# Altium footprint library pcblib.PcbLib: 8 footprints
Each footprint in its own frame and in the unit in brackets; x right, y up, seen from the top. Pads: shape width x height; smd on the part's side, far side on the other; paste and mask are expansions set on the pad; w line width, h text height; cw(c..) or ccw(c..) is an arc to the next point about the centre after c.
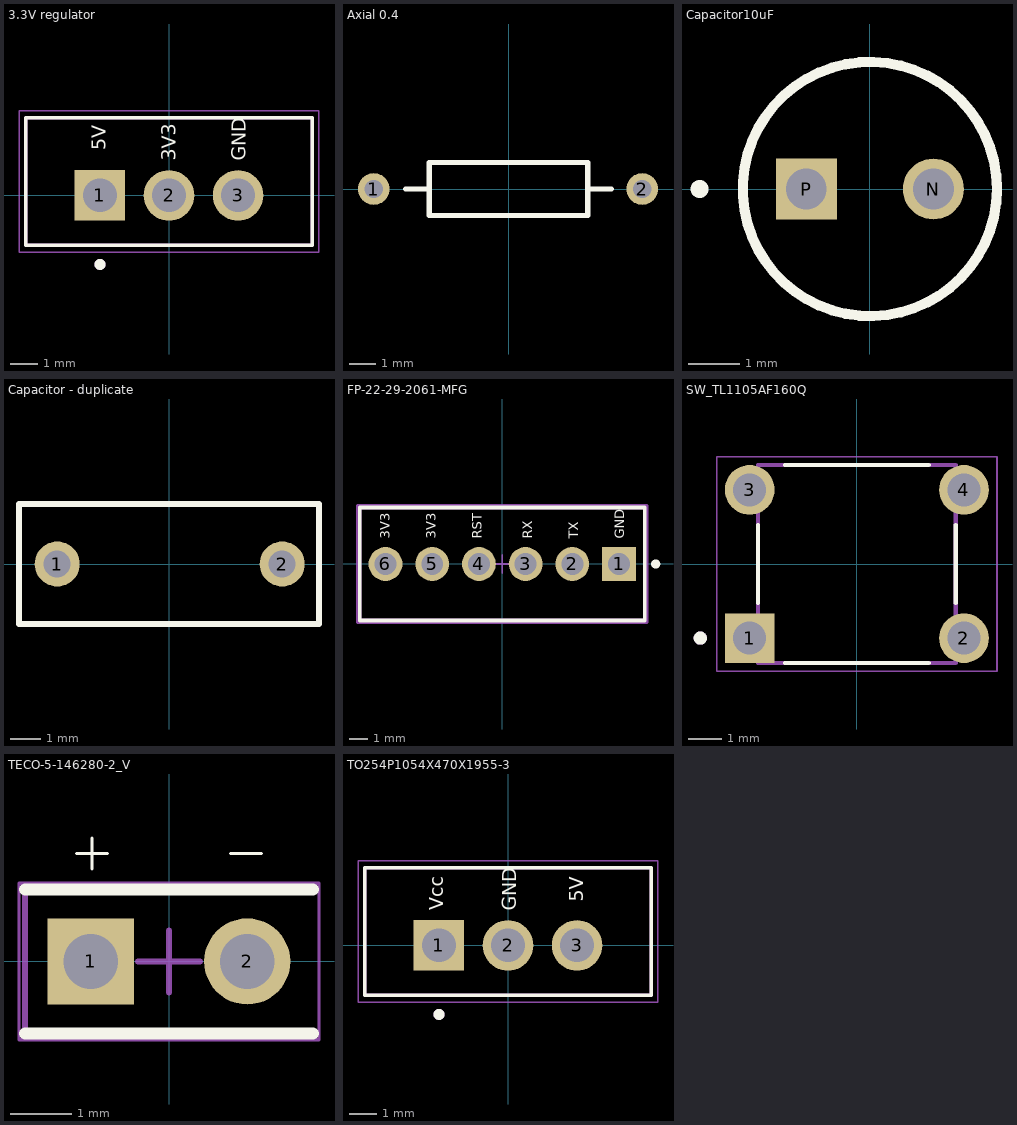
[diagram p0: the footprints below, top view; thin cyan lines are the x and y axes]

## 3.3V regulator [mm]
pads (3):
  rect 1.86x1.86 hole 1.24: 1(-2.54,0)
  round 1.86 hole 1.24: 2(0,0) 3(2.54,0)
Top Overlay:
  circle w0.2: c-2.54,-2.54 r0.1
  lines w0.127: -5.27,-1.84 -5.27,2.86 5.27,2.86 5.27,-1.84 -5.27,-1.84
  text "3V3" at 0.248,1.277 h0.51
  text "5V" at -2.327,1.652 h0.51
  text "GND" at 2.823,1.277 h0.51
Mechanical 13:
  circle w0.2: c-2.54,-2.54 r0.1
  lines w0.127: -5.27,-1.84 -5.27,2.86 5.27,2.86 5.27,-1.84 -5.27,-1.84
Mechanical 15:
  lines w0.05: -5.52,-2.09 -5.52,3.11 5.52,3.11 5.52,-2.09 -5.52,-2.09

## Axial 0.4 [mm]
pads (2):
  round 1.2 hole 0.7: 1(-5.1,0) 2(5.06,0)
Top Overlay:
  lines w0.2: -3.9,0 -3,0 ; 3,0 3.9,0 ; -3,0 -3,1 3,1 3,-1 -3,-1 -3,0
3D body "User Library-RESISTOR, 0_25 W, 0_4 IN LEAD PITCH.STEP": height 2.09, standoff -3.38, extent -5.405,-1.164 5.365,1.165

## Capacitor10uF [mm]
pads (2):
  round 1.2 hole 0.8: N(1.25,0)
  rect 1.2x1.2 hole 0.8: P(-1.25,0)
Top Overlay:
  circle w0.2: c0,0 r2.5
  circle w0.254: c-3.35,0 r0.05
3D body "ECA-1HM100I.STEP": height 12, standoff -16, extent -2.475,-2.587 2.518,2.413

## Capacitor - duplicate [mm]
pads (2):
  round 1.5 hole 0.9: 1(-3.725,0) 2(3.775,0)
Top Overlay:
  lines w0.2: -5,-2 -5,2 -3.725,2 3.775,2 5,2 5,-2 3.775,-2 -3.725,-2 -5,-2
3D body "DE21XSA220KN3AX02F--3DModel-STEP-56544.STEP": height 10.98, standoff -23, extent -4.1,-2.032 4.041,1.968

## FP-22-29-2061-MFG [mm]
pads (6):
  rect 1.84x1.84 hole 1.19 paste-1000 mask+0: 1(6.35,0)
  round 1.84 hole 1.19 paste-1000 mask+0: 2(3.81,0) 3(1.27,0) 4(-1.27,0) 5(-3.81,0) 6(-6.35,0)
Top Overlay:
  circle w0.25: c8.345,0 r0.125
  lines w0.2: -7.745,-3.075 7.745,-3.075 7.745,3.075 -7.745,3.075 -7.745,-3.075
  text "3V3" at -6.127,1.377 h0.51
  text "3V3" at -3.627,1.377 h0.51
  text "RST" at -1.127,1.377 h0.51
  text "RX" at 1.623,1.377 h0.51
  text "TX" at 4.123,1.377 h0.51
  text "GND" at 6.623,1.377 h0.51
Top 3D Body:
  lines w0.2: -7.745,-3.075 7.745,-3.075 7.745,3.075 -7.745,3.075 -7.745,-3.075
Top Courtyard:
  lines w0.2: -7.845,-3.175 7.845,-3.175 7.845,3.175 -7.845,3.175 -7.845,-3.175
Top Assembly:
  lines w0.2: -7.845,-3.175 7.845,-3.175 7.845,3.175 -7.845,3.175 -7.845,-3.175
  text ".Designator" at 0,0.188 h1
Top Component Center:
  lines w0.1: -0.5,0 0.5,0 ; 0,-0.5 0,0.5
3D body "Conn_Molex_22-29-2061_eec.STEP": height 0.25, standoff 0, extent -7.845,-3.175 7.845,3.175

## SW_TL1105AF160Q [mm]
height 13
pads (4):
  rect 1.508x1.508 / inner round 1.508 / far side rect 1.508x1.508 hole 1: 1(-3.25,-2.25)
  round 1.508 hole 1: 2(3.25,-2.25) 3(-3.25,2.25) 4(3.25,2.25)
Top Overlay:
  circle w0.2: c-4.75,-2.25 r0.1
  lines w0.127: -3,-1.182 -3,1.182 ; -2.183,-3 2.183,-3 ; -2.183,3 2.183,3 ; 3,-1.182 3,1.182
Mechanical 13:
  circle w0.2: c-4.75,-2.25 r0.1
  lines w0.127: -3,-3 3,-3 3,3 -3,3 -3,-3
Mechanical 15:
  lines w0.05: -4.254,-3.254 -4.254,3.254 4.254,3.254 4.254,-3.254 -4.254,-3.254
3D body "step_temp.STEP": height 5, standoff -3.55, extent -3.947,-3 3.947,3

## TECO-5-146280-2_V [mm] "Connector, 2-Leads, Body 4.67x2.34mm, Pitch 2.54mm"
height 8.21
pads (2):
  rect 1.4x1.4 hole 0.89: 1(-1.27,0)
  round 1.4 hole 0.89: 2(1.27,0)
Top Overlay:
  lines w0.051: -1.25,1.5 -1.25,2 ; -1,1.75 -1.5,1.75 -1.25,1.75 ; 1,1.75 1.5,1.75 ; -1.25,1.75 -1.25,1.75
  lines w0.2: -2.335,-1.17 2.335,-1.17 ; -2.335,1.17 2.335,1.17
Mechanical 13:
  lines w0.1: 2.335,-1.17 -2.335,-1.17 -2.335,1.17 2.335,1.17
Mechanical 15:
  lines w0.05: -2.435,-1.27 -2.435,1.27 2.435,1.27 2.435,-1.27 -2.435,-1.27
  lines w0.1: -0.5,0 0.5,0 ; 0,-0.5 0,0.5
3D body "c-5-146280-2-d-3d.stp": height 5.33, standoff -5.84, extent -2.337,-1.168 2.337,1.169

## TO254P1054X470X1955-3 [mm]
pads (3):
  rect 1.86x1.86 hole 1.24: 1(-2.54,0)
  round 1.86 hole 1.24: 2(0,0) 3(2.54,0)
Top Overlay:
  circle w0.2: c-2.54,-2.54 r0.1
  lines w0.127: -5.27,-1.84 5.27,-1.84 5.27,2.86 -5.27,2.86 -5.27,-1.84
  text "Vcc" at -2.377,1.302 h0.51
  text "GND" at 0.298,1.277 h0.51
  text "5V" at 2.773,1.602 h0.51
Mechanical 13:
  circle w0.2: c-2.54,-2.54 r0.1
  lines w0.127: -5.27,-1.84 5.27,-1.84 5.27,2.86 -5.27,2.86 -5.27,-1.84
Mechanical 15:
  lines w0.05: -5.52,-2.09 5.52,-2.09 5.52,3.11 -5.52,3.11 -5.52,-2.09